# Altium footprint library UART-COM.PcbLib: 1 footprints
Each footprint in its own frame and in the unit in brackets; x right, y up, seen from the top. Pads: shape width x height; smd on the part's side, far side on the other; paste and mask are expansions set on the pad; w line width, h text height; cw(c..) or ccw(c..) is an arc to the next point about the centre after c.
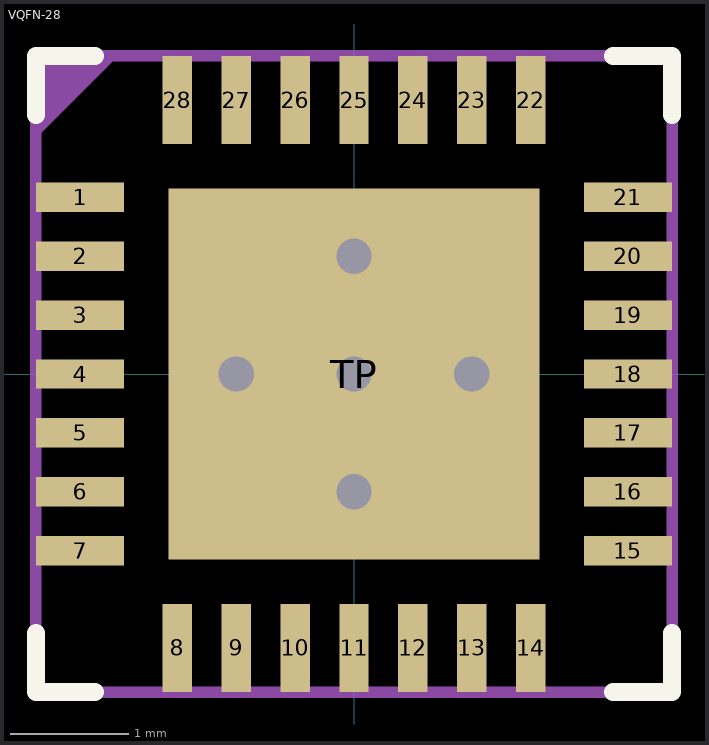
[diagram p0: the footprint, top view; thin cyan lines are the x and y axes]

## VQFN-28 [mm]
pads (29):
  rect 0.75x0.25 smd mask+0.05: 1(-2.325,1.5) 2(-2.325,1) 3(-2.325,0.5) 4(-2.325,0) 5(-2.325,-0.5) 6(-2.325,-1) 7(-2.325,-1.5) 15(2.325,-1.5) 16(2.325,-1) 17(2.325,-0.5) 18(2.325,0) 19(2.325,0.5) 20(2.325,1) 21(2.325,1.5)
  rect 0.25x0.75 smd mask+0.05: 8(-1.5,-2.325) 9(-1,-2.325) 10(-0.5,-2.325) 11(0,-2.325) 12(0.5,-2.325) 13(1,-2.325) 14(1.5,-2.325) 22(1.5,2.325) 23(1,2.325) 24(0.5,2.325) 25(0,2.325) 26(-0.5,2.325) 27(-1,2.325) 28(-1.5,2.325)
  rect 3.15x3.15 smd paste-3 mask+0.05: TP(0,0)
via -1,0 diameter 0.6 hole 0.3
via 1,0 diameter 0.6 hole 0.3
via 0,-1 diameter 0.6 hole 0.3
via 0,1 diameter 0.6 hole 0.3
via 0,0 diameter 0.6 hole 0.3
Top Overlay:
  lines w0.153: -2.7,-2.2 -2.7,-2.7 -2.2,-2.7 ; -2.7,2.2 -2.7,2.7 -2.2,2.7 ; 2.2,-2.7 2.7,-2.7 2.7,-2.2 ; 2.2,2.7 2.7,2.7 2.7,2.2
  text "." at -3.347,2.153 h0.8
Top Paste:
  region: 1.45,0.15 0.15,0.15 0.15,1.45 1.45,1.45
  region: -0.15,0.15 -1.45,0.15 -1.45,1.45 -0.15,1.45
  region: 1.45,-1.45 0.15,-1.45 0.15,-0.15 1.45,-0.15
  region: -0.15,-1.45 -1.45,-1.45 -1.45,-0.15 -0.15,-0.15
Top Assembly:
  region: -2.7,2.7 -2,2.7 -2.7,2
  lines w0.1: -2.7,-2.7 2.7,-2.7 2.7,2.7 -2.7,2.7 -2.7,-2.7
  text "'.Designator'" at -4.532,-0.333 h0.8
Mechanical 15:
  lines w0.1: -0.3,-0.012 0.3,-0.012 ; 0,-0.312 0,0.288 ; -2.7,-2.7 -2.7,2.7 2.7,2.7 2.7,-2.7 -2.7,-2.7
3D body "step_temp.STEP": height 1, standoff 0, extent -2.5,-2.5 2.5,2.5